# Altium footprint library PCB_Lib.PcbLib: 301 footprints (part 2 of 19)
Each footprint in its own frame and in the unit in brackets; x right, y up, seen from the top. Pads: shape width x height; smd on the part's side, far side on the other; paste and mask are expansions set on the pad; w line width, h text height; cw(c..) or ccw(c..) is an arc to the next point about the centre after c.
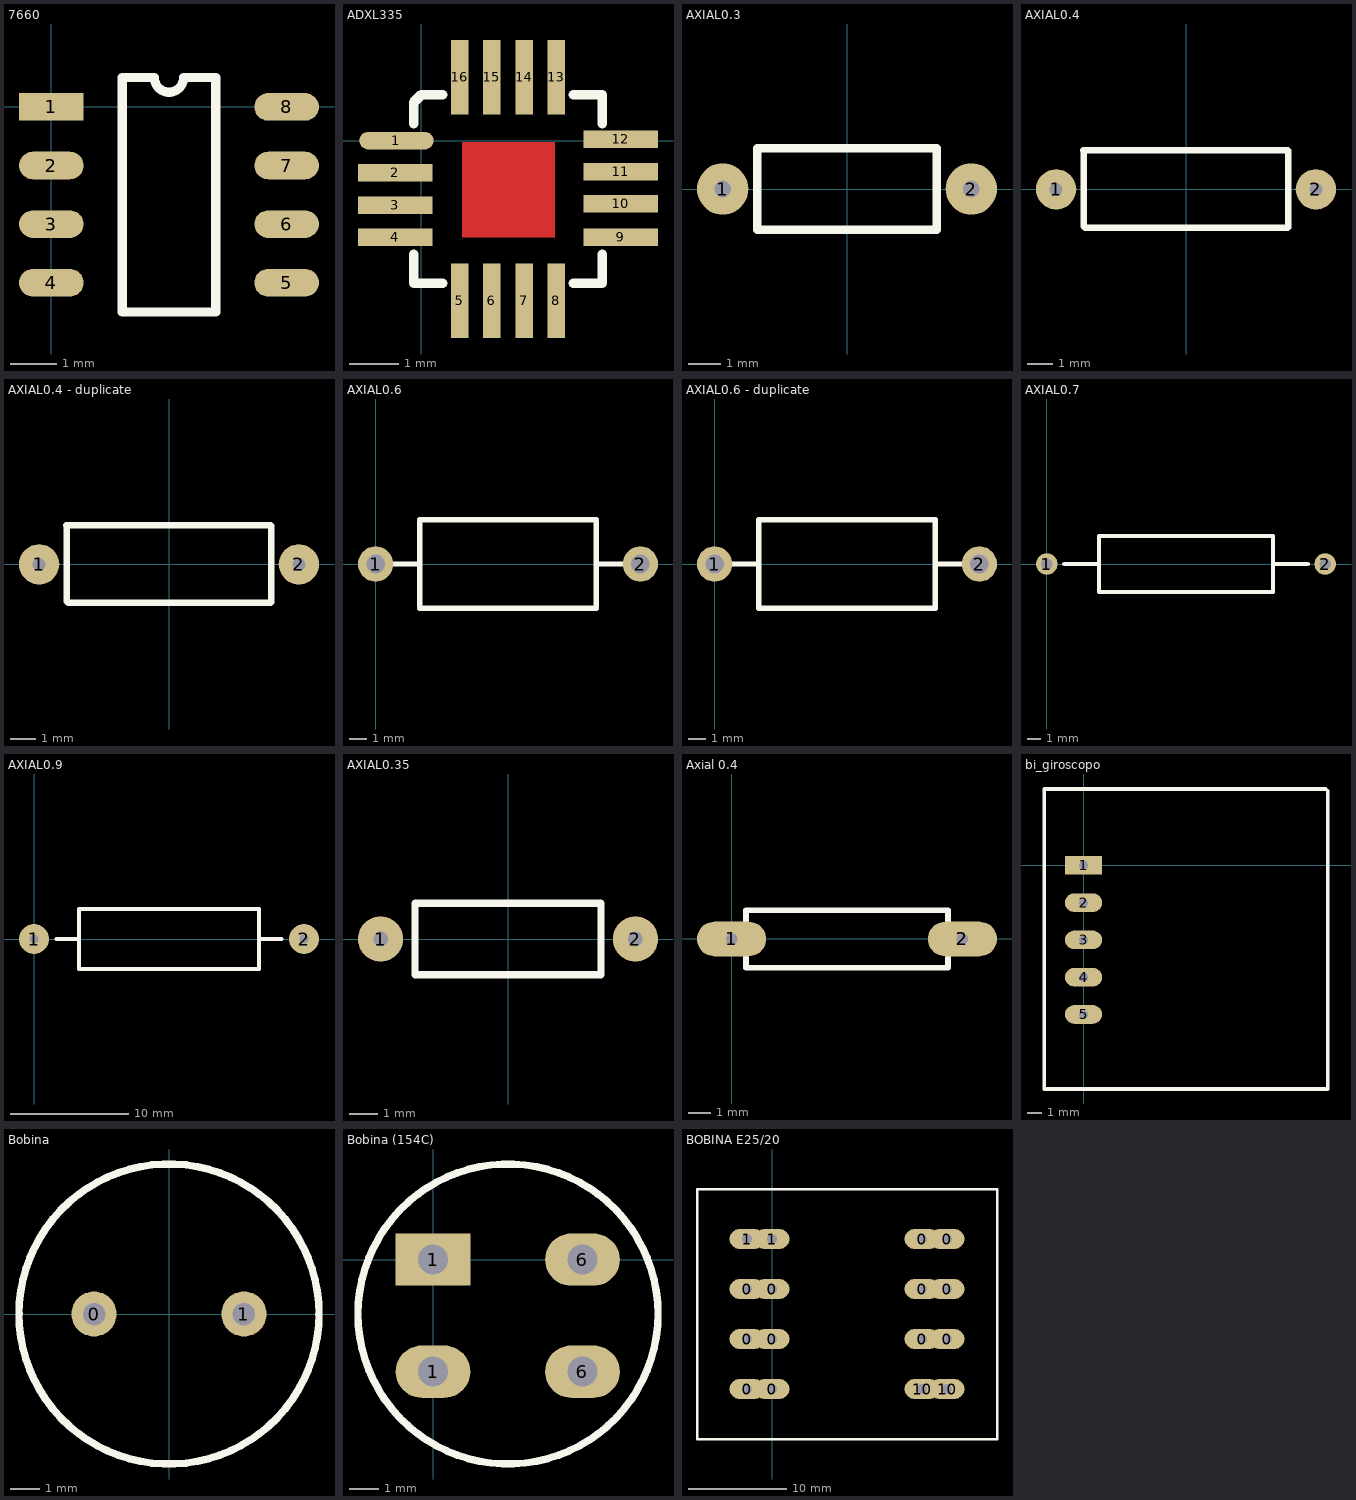
[diagram p1: the footprints below, top view; thin cyan lines are the x and y axes]

## 7660 [mm]
pads (8):
  rect 1.4x0.6 smd: 1(0,0)
  oval 1.4x0.6 smd: 2(0,-1.27) 3(0,-2.54) 4(0,-3.81) 5(5.1,-3.81) 6(5.1,-2.54) 7(5.1,-1.27) 8(5.1,0)
Top Overlay:
  lines w0.2: 1.535,-4.445 1.535,0.635 2.232,0.635 ccw(c2.55,0.635) 2.867,0.635 3.565,0.635 3.565,-4.445 1.535,-4.445

## ADXL335 [mm]
pads (16):
  oval 1.5x0.35 smd: 1(-0.5,0)
  rect 1.5x0.35 smd: 2(-0.525,-0.65) 3(-0.525,-1.3) 4(-0.525,-1.95) 9(4.025,-1.95) 10(4.025,-1.275) 11(4.025,-0.625) 12(4.025,0.025)
  rect 0.35x1.5 smd: 5(0.775,-3.225) 6(1.425,-3.225) 7(2.075,-3.225) 8(2.725,-3.225) 13(2.725,1.275) 14(2.075,1.275) 15(1.425,1.275) 16(0.775,1.275)
Top Layer:
  rectangle: 0.825,-1.95 2.7,-0.025
Top Overlay:
  lines w0.2: -0.15,-2.3 -0.15,-2.875 0.425,-2.875 ; -0.15,0.35 -0.15,0.775 0,0.925 0.425,0.925 ; 3.075,-2.875 3.65,-2.875 3.65,-2.3 ; 3.075,0.925 3.65,0.925 3.65,0.35

## ATMEGA1284P [mil]

## AXIAL0.3 [mil]
pads (2):
  round 62 hole 20: 1(-150,0) 2(150,0)
Top Overlay:
  lines w10: -108.27,-49.21 108.27,-49.21 108.27,49.21 -108.27,49.21 -108.27,0 -108.27,-49.21

## AXIAL0.4 [mil]
pads (2):
  round 62 hole 20: 1(-200,0) 2(200,0)
Top Overlay:
  lines w10: -157.48,0 -157.48,59.06 -158.46,60.04 156.5,60.04 157.48,59.06 157.48,-58.07 156.5,-59.06 -155.51,-59.06 -157.48,-57.09 -157.48,0.98

## AXIAL0.4 - duplicate [mil]
pads (2):
  round 62 hole 20: 1(-200,0) 2(200,0)
Top Overlay:
  lines w10: -157.48,0 -157.48,59.06 -158.46,60.04 156.5,60.04 157.48,59.06 157.48,-58.07 156.5,-59.06 -155.51,-59.06 -157.48,-57.09 -157.48,0.98

## AXIAL0.6 [mil]
pads (2):
  round 80 hole 42: 1(0,0) 2(600,0)
Top Overlay:
  lines w12: 40,0 100,0 ; 500,0 560,0 ; 100,-100 100,100 500,100 500,-100 100,-100

## AXIAL0.6 - duplicate [mil]
pads (2):
  round 80 hole 42: 1(0,0) 2(600,0)
Top Overlay:
  lines w12: 40,0 100,0 ; 500,0 560,0 ; 100,-100 500,-100 500,100 100,100 100,-100

## AXIAL0.7 [mil] "1 WATIO"
pads (2):
  round 62 hole 32: 1(0,0) 2(800,0)
Top Overlay:
  lines w12: 50,0 150,0 ; 650,0 750,0 ; 150,-80 650,-80 650,80 150,80 150,-80

## AXIAL0.9 [mil]
pads (2):
  round 100 hole 30: 1(0,0) 2(900,0)
Top Overlay:
  lines w12: 75,0 150,0 ; 750,0 825,0 ; 150,-100 750,-100 750,100 150,100 150,-100

## AXIAL0.35 [mil]
pads (2):
  round 62 hole 20: 1(-175.2,0) 2(175.2,0)
Top Overlay:
  lines w10: -127.95,-49.21 127.95,-49.21 127.95,49.21 -127.95,49.21 -127.95,0 -127.95,-49.21

## Axial 0.4 [mil] "Resistencias inserción 1/4"
pads (2):
  oval 120x60 hole 20: 1(0,0) 2(400,0)
Top Overlay:
  lines w10: 25,-50 375,-50 375,50 25,50 25,0 25,-50

## bi_giroscopo [mil]
pads (5):
  rect 100x50 hole 25: 1(0,0)
  oval 100x50 hole 25: 2(0,-100) 3(0,-200) 4(0,-300) 5(0,-400)
Top Overlay:
  lines w10: 650,205 -105,205 -105,-600 655,-600 655,200

## Bobina [mil] "150uH_LAB"
pads (2):
  round 60 hole 30: 0(-100,0) 1(100,0)
Top Overlay:
  circle w10: c0,0 r200

## Bobina (154C) [mil]
pads (4):
  oval 100x70 hole 40: 1(0,-150) 6(200,-150) 6(200,0)
  rect 100x70 hole 40: 1(0,0)
Top Overlay:
  circle w10: c100.39,-72.83 r200.8

## BOBINA E25/20 [mil]
pads (16):
  oval 140x80 hole 40: 0(-100,-1000) 0(-100,-800) 0(-100,-600) 0(0,-1000) 0(0,-800) 0(0,-600) 0(600,-800) 0(600,-600) 0(600,-400) 0(700,-800) 0(700,-600) 0(700,-400) 1(-100,-400) 1(0,-400) 10(600,-1000) 10(700,-1000)
Top Overlay:
  lines w10: -300,-1200 900,-1200 900,-200 -300,-200 -300,-1200